# Altium footprint library B2P-VHLFSN.PcbLib: 1 footprints
Each footprint in its own frame and in the unit in brackets; x right, y up, seen from the top. Pads: shape width x height; smd on the part's side, far side on the other; paste and mask are expansions set on the pad; w line width, h text height; cw(c..) or ccw(c..) is an arc to the next point about the centre after c.
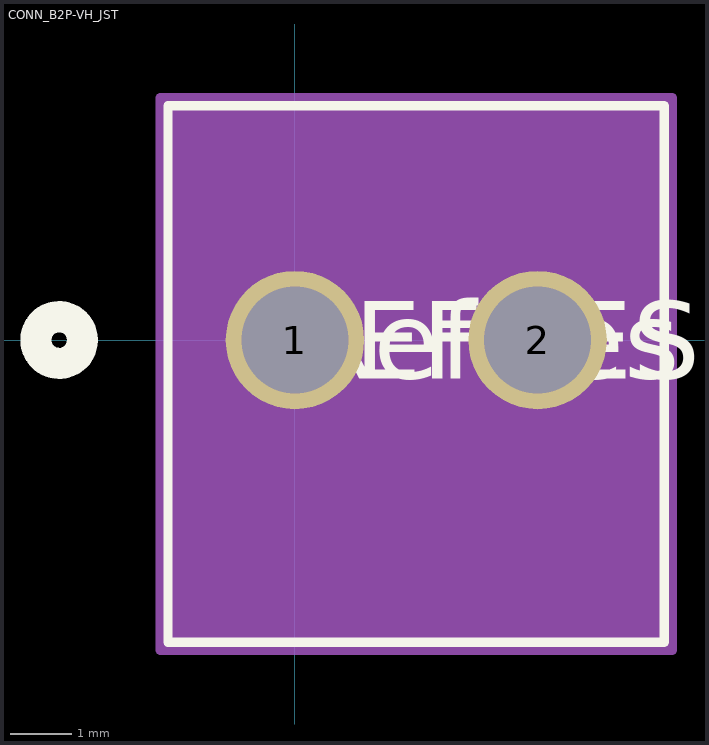
[diagram p0: the footprint, top view; thin cyan lines are the x and y axes]

## CONN_B2P-VH_JST [mil]
pads (2):
  round 89 / inner round 60 / far side round 89 hole 69 paste-44.5 mask+0: 1(0,0) 2(155.91,0)
Top Overlay:
  circle w20: c-151.55,0 r15
  lines w6: -81.55,-194.33 237.45,-194.33 237.45,150.67 -81.55,150.67 -81.55,-194.33
  text "RefDes" at 2.95,-25 h50
  text "REFDES" at -9.55,-25 h50
Bottom Overlay:
  circle w20: c-151.55,0 r15
Mechanical 13:
  circle w20: c0,75 r15
  lines w1: -76.55,-189.33 232.45,-189.33 232.45,145.67 -76.55,145.67 -76.55,-189.33
  text "RefDes2" at -9.55,-25 h50
Mechanical 15:
  region: 242.45,155.67 -86.55,155.67 -86.55,-199.33 242.45,-199.33
  lines w6: -86.55,-199.33 -86.55,155.67 242.45,155.67 242.45,-199.33 -86.55,-199.33